# Altium schematic symbol library A-2004-2-4-LPS-N-R.SchLib: 1 symbol
Pins are listed as number, name and electrical type; pins without a type are passive.

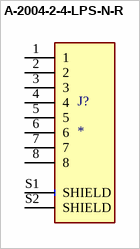
[diagram p0: symbol A-2004-2-4-LPS-N-R]

## A-2004-2-4-LPS-N-R
designator J?
Jack Modular Connector 8p8c (RJ45, Ethernet) 90Â° Angle (Right) Shielded; MF: {'manufacturer': u'Assmann WSW'}; MP: A-2004-2-4-LPS-N-R; Package: None; Price: None; Value: *; Availability: Unavailable
footprint ASSMANN_A-2004-2-4-LPS-N-R
pins: 1, 2, 3, 4, 5, 6, 7, 8, S1 SHIELD, S2 SHIELD